# Altium schematic symbol library WE-CBF.SchLib: 156 symbols (part 3 of 3)
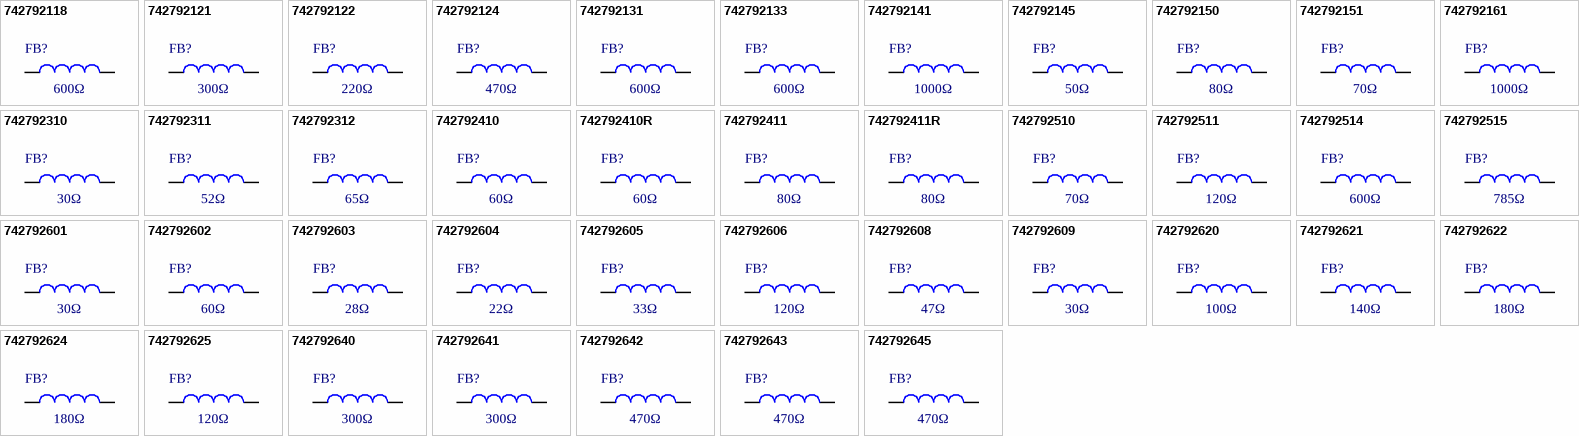
[diagram p5: symbols 742792118 to 742792645]

## 742792622
designator FB?, comment 180Ω
WE-CBF SMT EMI Suppression Ferrite Bead, size 0603, 180Ω, 1.5A; Manufacturer Part Number: 742792622; Manufacturer: Wurth Elektronik; Case/Size Code: 0603; DC Resistance Max: 0.3Ω; Impedance Max: 283Ω; Impedance Max Test Condition: 410MHz; Type: Wide Band; Category: Ferrites for PCB Assembly; Match Code: WE-CBF; ComponentLink1Description: Website Link; ComponentLink1URL: https://www.we-online.com/redexpert/article/742792622?ad; ComponentLink2Description: Datasheet Link; ComponentLink2URL: https://www.we-online.com/redexpert/spec/742792622?ad; Mount: Surface Mount; Min Operating Temperature: -55°C; Max Operating Temperature: 125°C; Packaging: Tape and Reel; Length: 1.6mm; Width: 0.8mm; Height: 0.8mm; Impedance @100MHz: 180Ω; Rated Current: 1.5A
footprint WE-CBF_0603_L1.6W0.8H0.8_HS_WB
simulation model 0603_742792622_180ohm
pins: 1, 2

## 742792624
designator FB?, comment 180Ω
WE-CBF SMT EMI Suppression Ferrite Bead, size 0603, 180Ω, 1.5A; Manufacturer Part Number: 742792624; Manufacturer: Wurth Elektronik; Case/Size Code: 0603; DC Resistance Max: 0.09Ω; Impedance Max: 250Ω; Impedance Max Test Condition: 400MHz; Type: High Current; Category: Ferrites for PCB Assembly; Match Code: WE-CBF; ComponentLink1Description: Website Link; ComponentLink1URL: https://www.we-online.com/redexpert/article/742792624?ad; ComponentLink2Description: Datasheet Link; ComponentLink2URL: https://www.we-online.com/redexpert/spec/742792624?ad; Mount: Surface Mount; Min Operating Temperature: -55°C; Max Operating Temperature: 125°C; Packaging: Tape and Reel; Length: 1.6mm; Width: 0.8mm; Height: 0.8mm; Impedance @100MHz: 180Ω; Rated Current: 1.5A
footprint WE-CBF_0603_L1.6W0.8H0.8_HC
simulation model 0603_742792624_180ohm
pins: 1, 2

## 742792625
designator FB?, comment 120Ω
WE-CBF SMT EMI Suppression Ferrite Bead, size 0603, 120Ω, 2A; Manufacturer Part Number: 742792625; Manufacturer: Wurth Elektronik; Case/Size Code: 0603; DC Resistance Max: 0.05Ω; Impedance Max: 180Ω; Impedance Max Test Condition: 400MHz; Type: High Current; Category: Ferrites for PCB Assembly; Match Code: WE-CBF; ComponentLink1Description: Website Link; ComponentLink1URL: https://www.we-online.com/redexpert/article/742792625?ad; ComponentLink2Description: Datasheet Link; ComponentLink2URL: https://www.we-online.com/redexpert/spec/742792625?ad; Mount: Surface Mount; Min Operating Temperature: -55°C; Max Operating Temperature: 125°C; Packaging: Tape and Reel; Length: 1.6mm; Width: 0.8mm; Height: 0.8mm; Impedance @100MHz: 120Ω; Rated Current: 2A
footprint WE-CBF_0603_L1.6W0.8H0.8_HC
simulation model 0603_742792625_120ohm
pins: 1, 2

## 742792640
designator FB?, comment 300Ω
WE-CBF SMT EMI Suppression Ferrite Bead, size 0603, 300Ω, 0.75A; Manufacturer Part Number: 742792640; Manufacturer: Wurth Elektronik; Case/Size Code: 0603; DC Resistance Max: 0.35Ω; Impedance Max: 1500Ω; Impedance Max Test Condition: 250MHz; Type: High Speed; Category: Ferrites for PCB Assembly; Match Code: WE-CBF; ComponentLink1Description: Website Link; ComponentLink1URL: https://www.we-online.com/redexpert/article/742792640?ad; ComponentLink2Description: Datasheet Link; ComponentLink2URL: https://www.we-online.com/redexpert/spec/742792640?ad; Mount: Surface Mount; Min Operating Temperature: -55°C; Max Operating Temperature: 125°C; Packaging: Tape and Reel; Length: 1.6mm; Width: 0.8mm; Height: 0.8mm; Impedance @100MHz: 300Ω; Rated Current: 0.75A
footprint WE-CBF_0603_L1.6W0.8H0.8_HS_WB
simulation model 0603_742792640_300ohm
pins: 1, 2

## 742792641
designator FB?, comment 300Ω
WE-CBF SMT EMI Suppression Ferrite Bead, size 0603, 300Ω, 2A; Manufacturer Part Number: 742792641; Manufacturer: Wurth Elektronik; Case/Size Code: 0603; DC Resistance Max: 0.15Ω; Impedance Max: 450Ω; Impedance Max Test Condition: 250MHz; Type: High Current; Category: Ferrites for PCB Assembly; Match Code: WE-CBF; ComponentLink1Description: Website Link; ComponentLink1URL: https://www.we-online.com/redexpert/article/742792641?ad; ComponentLink2Description: Datasheet Link; ComponentLink2URL: https://www.we-online.com/redexpert/spec/742792641?ad; Mount: Surface Mount; Min Operating Temperature: -55°C; Max Operating Temperature: 125°C; Packaging: Tape and Reel; Length: 1.6mm; Width: 0.8mm; Height: 0.8mm; Impedance @100MHz: 300Ω; Rated Current: 2A
footprint WE-CBF_0603_L1.6W0.8H0.8_HC
simulation model 0603_742792641_300ohm
pins: 1, 2

## 742792642
designator FB?, comment 470Ω
WE-CBF SMT EMI Suppression Ferrite Bead, size 0603, 470Ω, 0.95A; Manufacturer Part Number: 742792642; Manufacturer: Wurth Elektronik; Case/Size Code: 0603; DC Resistance Max: 0.45Ω; Impedance Max: 780Ω; Impedance Max Test Condition: 300MHz; Type: Wide Band; Category: Ferrites for PCB Assembly; Match Code: WE-CBF; ComponentLink1Description: Website Link; ComponentLink1URL: https://www.we-online.com/redexpert/article/742792642?ad; ComponentLink2Description: Datasheet Link; ComponentLink2URL: https://www.we-online.com/redexpert/spec/742792642?ad; Mount: Surface Mount; Min Operating Temperature: -55°C; Max Operating Temperature: 125°C; Packaging: Tape and Reel; Length: 1.6mm; Width: 0.8mm; Height: 0.8mm; Impedance @100MHz: 470Ω; Rated Current: 0.95A
footprint WE-CBF_0603_L1.6W0.8H0.8_HS_WB
simulation model 0603_742792642_470ohm
pins: 1, 2

## 742792643
designator FB?, comment 470Ω
WE-CBF SMT EMI Suppression Ferrite Bead, size 0603, 470Ω, 0.73A; Manufacturer Part Number: 742792643; Manufacturer: Wurth Elektronik; Case/Size Code: 0603; DC Resistance Max: 0.35Ω; Impedance Max: 700Ω; Impedance Max Test Condition: 250MHz; Type: High Speed; Category: Ferrites for PCB Assembly; Match Code: WE-CBF; ComponentLink1Description: Website Link; ComponentLink1URL: https://www.we-online.com/redexpert/article/742792643?ad; ComponentLink2Description: Datasheet Link; ComponentLink2URL: https://www.we-online.com/redexpert/spec/742792643?ad; Mount: Surface Mount; Min Operating Temperature: -55°C; Max Operating Temperature: 125°C; Packaging: Tape and Reel; Length: 1.6mm; Width: 0.8mm; Height: 0.8mm; Impedance @100MHz: 470Ω; Rated Current: 0.73A
footprint WE-CBF_0603_L1.6W0.8H0.8_HS_WB
simulation model 0603_742792643_470ohm
pins: 1, 2

## 742792645
designator FB?, comment 470Ω
WE-CBF SMT EMI Suppression Ferrite Bead, size 0603, 470Ω, 1A; Manufacturer Part Number: 742792645; Manufacturer: Wurth Elektronik; Case/Size Code: 0603; DC Resistance Max: 0.2Ω; Impedance Max: 600Ω; Impedance Max Test Condition: 230MHz; Type: High Current; Category: Ferrites for PCB Assembly; Match Code: WE-CBF; ComponentLink1Description: Website Link; ComponentLink1URL: https://www.we-online.com/redexpert/article/742792645?ad; ComponentLink2Description: Datasheet Link; ComponentLink2URL: https://www.we-online.com/redexpert/spec/742792645?ad; Mount: Surface Mount; Min Operating Temperature: -55°C; Max Operating Temperature: 125°C; Packaging: Tape and Reel; Length: 1.6mm; Width: 0.8mm; Height: 0.8mm; Impedance @100MHz: 470Ω; Rated Current: 1A
footprint WE-CBF_0603_L1.6W0.8H0.8_HC
simulation model 0603_742792645_470ohm
pins: 1, 2

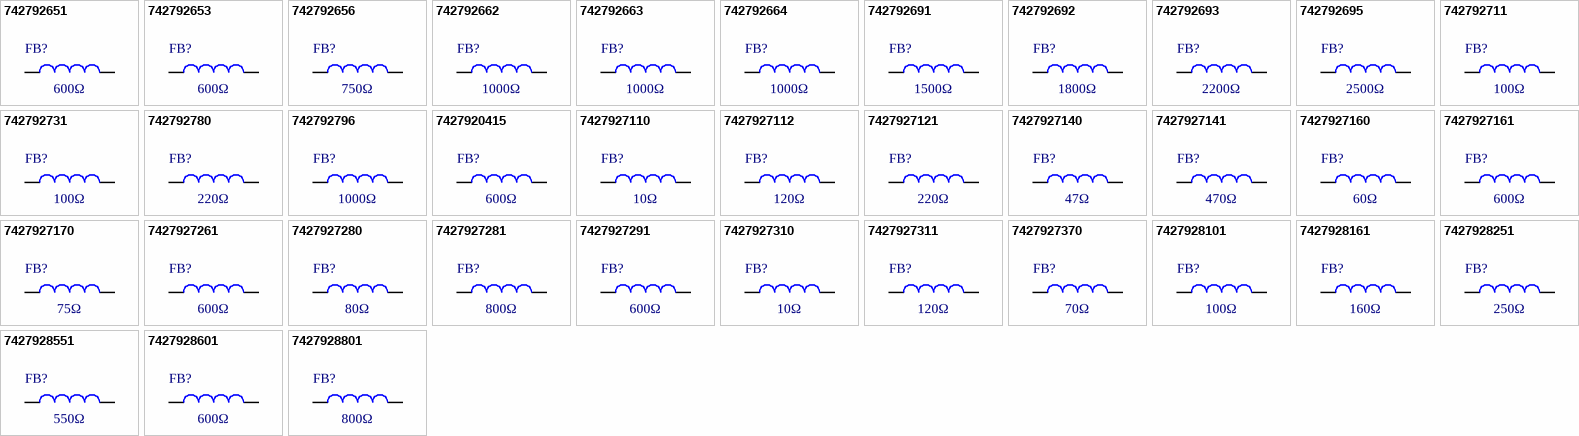
[diagram p3: symbols 742792651 to 7427928801]

## 742792651
designator FB?, comment 600Ω
WE-CBF SMT EMI Suppression Ferrite Bead, size 0603, 600Ω, 1A; Manufacturer Part Number: 742792651; Manufacturer: Wurth Elektronik; Case/Size Code: 0603; DC Resistance Max: 0.2Ω; Impedance Max: 800Ω; Impedance Max Test Condition: 200MHz; Type: High Current; Category: Ferrites for PCB Assembly; Match Code: WE-CBF; ComponentLink1Description: Website Link; ComponentLink1URL: https://www.we-online.com/redexpert/article/742792651?ad; ComponentLink2Description: Datasheet Link; ComponentLink2URL: https://www.we-online.com/redexpert/spec/742792651?ad; Mount: Surface Mount; Min Operating Temperature: -55°C; Max Operating Temperature: 125°C; Packaging: Tape and Reel; Length: 1.6mm; Width: 0.8mm; Height: 0.8mm; Impedance @100MHz: 600Ω; Rated Current: 1A
footprint WE-CBF_0603_L1.6W0.8H0.8_HC
simulation model 0603_742792651_600ohm
pins: 1, 2

## 742792653
designator FB?, comment 600Ω
WE-CBF SMT EMI Suppression Ferrite Bead, size 0603, 600Ω, 0.5A; Manufacturer Part Number: 742792653; Manufacturer: Wurth Elektronik; Case/Size Code: 0603; DC Resistance Max: 0.65Ω; Impedance Max: 4500Ω; Impedance Max Test Condition: 200MHz; Type: High Speed; Category: Ferrites for PCB Assembly; Match Code: WE-CBF; ComponentLink1Description: Website Link; ComponentLink1URL: https://www.we-online.com/redexpert/article/742792653?ad; ComponentLink2Description: Datasheet Link; ComponentLink2URL: https://www.we-online.com/redexpert/spec/742792653?ad; Mount: Surface Mount; Min Operating Temperature: -55°C; Max Operating Temperature: 125°C; Packaging: Tape and Reel; Length: 1.6mm; Width: 0.8mm; Height: 0.8mm; Impedance @100MHz: 600Ω; Rated Current: 0.5A
footprint WE-CBF_0603_L1.6W0.8H0.8_HS_WB
simulation model 0603_742792653_600ohm
pins: 1, 2

## 742792656
designator FB?, comment 750Ω
WE-CBF SMT EMI Suppression Ferrite Bead, size 0603, 750Ω, 0.9A; Manufacturer Part Number: 742792656; Manufacturer: Wurth Elektronik; Case/Size Code: 0603; DC Resistance Max: 0.35Ω; Impedance Max: 800Ω; Impedance Max Test Condition: 150MHz; Type: Wide Band; Category: Ferrites for PCB Assembly; Match Code: WE-CBF; ComponentLink1Description: Website Link; ComponentLink1URL: https://www.we-online.com/redexpert/article/742792656?ad; ComponentLink2Description: Datasheet Link; ComponentLink2URL: https://www.we-online.com/redexpert/spec/742792656?ad; Mount: Surface Mount; Min Operating Temperature: -55°C; Max Operating Temperature: 125°C; Packaging: Tape and Reel; Length: 1.6mm; Width: 0.8mm; Height: 0.8mm; Impedance @100MHz: 750Ω; Rated Current: 0.9A
footprint WE-CBF_0603_L1.6W0.8H0.8_HS_WB
simulation model 0603_742792656_750ohm
pins: 1, 2

## 742792662
designator FB?, comment 1000Ω
WE-CBF SMT EMI Suppression Ferrite Bead, size 0603, 1000Ω, 0.83A; Manufacturer Part Number: 742792662; Manufacturer: Wurth Elektronik; Case/Size Code: 0603; DC Resistance Max: 0.3Ω; Impedance Max: 1050Ω; Impedance Max Test Condition: 120MHz; Type: Wide Band; Category: Ferrites for PCB Assembly; Match Code: WE-CBF; ComponentLink1Description: Website Link; ComponentLink1URL: https://www.we-online.com/redexpert/article/742792662?ad; ComponentLink2Description: Datasheet Link; ComponentLink2URL: https://www.we-online.com/redexpert/spec/742792662?ad; Mount: Surface Mount; Min Operating Temperature: -55°C; Max Operating Temperature: 125°C; Packaging: Tape and Reel; Length: 1.6mm; Width: 0.8mm; Height: 0.8mm; Impedance @100MHz: 1000Ω; Rated Current: 0.83A
footprint WE-CBF_0603_L1.6W0.8H0.8_HS_WB
simulation model 0603_742792662_1000ohm
pins: 1, 2

## 742792663
designator FB?, comment 1000Ω
WE-CBF SMT EMI Suppression Ferrite Bead, size 0603, 1000Ω, 0.65A; Manufacturer Part Number: 742792663; Manufacturer: Wurth Elektronik; Case/Size Code: 0603; DC Resistance Max: 0.85Ω; Impedance Max: 1100Ω; Impedance Max Test Condition: 150MHz; Type: Wide Band; Category: Ferrites for PCB Assembly; Match Code: WE-CBF; ComponentLink1Description: Website Link; ComponentLink1URL: https://www.we-online.com/redexpert/article/742792663?ad; ComponentLink2Description: Datasheet Link; ComponentLink2URL: https://www.we-online.com/redexpert/spec/742792663?ad; Mount: Surface Mount; Min Operating Temperature: -55°C; Max Operating Temperature: 125°C; Packaging: Tape and Reel; Length: 1.6mm; Width: 0.8mm; Height: 0.8mm; Impedance @100MHz: 1000Ω; Rated Current: 0.65A
footprint WE-CBF_0603_L1.6W0.8H0.8_HS_WB
simulation model 0603_742792663_1000ohm
pins: 1, 2

## 742792664
designator FB?, comment 1000Ω
WE-CBF SMT EMI Suppression Ferrite Bead, size 0603, 1000Ω, 0.68A; Manufacturer Part Number: 742792664; Manufacturer: Wurth Elektronik; Case/Size Code: 0603; DC Resistance Max: 0.6Ω; Impedance Max: 1100Ω; Impedance Max Test Condition: 120MHz; Type: High Speed; Category: Ferrites for PCB Assembly; Match Code: WE-CBF; ComponentLink1Description: Website Link; ComponentLink1URL: https://www.we-online.com/redexpert/article/742792664?ad; ComponentLink2Description: Datasheet Link; ComponentLink2URL: https://www.we-online.com/redexpert/spec/742792664?ad; Mount: Surface Mount; Min Operating Temperature: -55°C; Max Operating Temperature: 125°C; Packaging: Tape and Reel; Length: 1.6mm; Width: 0.8mm; Height: 0.8mm; Impedance @100MHz: 1000Ω; Rated Current: 0.68A
footprint WE-CBF_0603_L1.6W0.8H0.8_HS_WB
simulation model 0603_742792664_1000ohm
pins: 1, 2

## 742792691
designator FB?, comment 1500Ω
WE-CBF SMT EMI Suppression Ferrite Bead, size 0603, 1500Ω, 0.65A; Manufacturer Part Number: 742792691; Manufacturer: Wurth Elektronik; Case/Size Code: 0603; DC Resistance Max: 0.7Ω; Impedance Max: 1900Ω; Impedance Max Test Condition: 140MHz; Type: Wide Band; Category: Ferrites for PCB Assembly; Match Code: WE-CBF; ComponentLink1Description: Website Link; ComponentLink1URL: https://www.we-online.com/redexpert/article/742792691?ad; ComponentLink2Description: Datasheet Link; ComponentLink2URL: https://www.we-online.com/redexpert/spec/742792691?ad; Mount: Surface Mount; Min Operating Temperature: -55°C; Max Operating Temperature: 125°C; Packaging: Tape and Reel; Length: 1.6mm; Width: 0.8mm; Height: 0.8mm; Impedance @100MHz: 1500Ω; Rated Current: 0.65A
footprint WE-CBF_0603_L1.6W0.8H0.8_HS_WB
simulation model 0603_742792691_1500ohm
pins: 1, 2

## 742792692
designator FB?, comment 1800Ω
WE-CBF SMT EMI Suppression Ferrite Bead, size 0603, 1800Ω, 0.5A; Manufacturer Part Number: 742792692; Manufacturer: Wurth Elektronik; Case/Size Code: 0603; DC Resistance Max: 0.8Ω; Impedance Max: 2100Ω; Impedance Max Test Condition: 130MHz; Type: Wide Band; Category: Ferrites for PCB Assembly; Match Code: WE-CBF; ComponentLink1Description: Website Link; ComponentLink1URL: https://www.we-online.com/redexpert/article/742792692?ad; ComponentLink2Description: Datasheet Link; ComponentLink2URL: https://www.we-online.com/redexpert/spec/742792692?ad; Mount: Surface Mount; Min Operating Temperature: -55°C; Max Operating Temperature: 125°C; Packaging: Tape and Reel; Length: 1.6mm; Width: 0.8mm; Height: 0.8mm; Impedance @100MHz: 1800Ω; Rated Current: 0.5A
footprint WE-CBF_0603_L1.6W0.8H0.8_HS_WB
simulation model 0603_742792692_1800ohm
pins: 1, 2

## 742792693
designator FB?, comment 2200Ω
WE-CBF SMT EMI Suppression Ferrite Bead, size 0603, 2200Ω, 0.5A; Manufacturer Part Number: 742792693; Manufacturer: Wurth Elektronik; Case/Size Code: 0603; DC Resistance Max: 0.8Ω; Impedance Max: 2250Ω; Impedance Max Test Condition: 110MHz; Type: Wide Band; Category: Ferrites for PCB Assembly; Match Code: WE-CBF; ComponentLink1Description: Website Link; ComponentLink1URL: https://www.we-online.com/redexpert/article/742792693?ad; ComponentLink2Description: Datasheet Link; ComponentLink2URL: https://www.we-online.com/redexpert/spec/742792693?ad; Mount: Surface Mount; Min Operating Temperature: -55°C; Max Operating Temperature: 125°C; Packaging: Tape and Reel; Length: 1.6mm; Width: 0.8mm; Height: 0.8mm; Impedance @100MHz: 2200Ω; Rated Current: 0.5A
footprint WE-CBF_0603_L1.6W0.8H0.8_HS_WB
simulation model 0603_742792693_2200ohm
pins: 1, 2

## 742792695
designator FB?, comment 2500Ω
WE-CBF SMT EMI Suppression Ferrite Bead, size 0603, 2500Ω, 0.45A; Manufacturer Part Number: 742792695; Manufacturer: Wurth Elektronik; Case/Size Code: 0603; DC Resistance Max: 1Ω; Impedance Max: 3000Ω; Impedance Max Test Condition: 80MHz; Type: Wide Band; Category: Ferrites for PCB Assembly; Match Code: WE-CBF; ComponentLink1Description: Website Link; ComponentLink1URL: https://www.we-online.com/redexpert/article/742792695?ad; ComponentLink2Description: Datasheet Link; ComponentLink2URL: https://www.we-online.com/redexpert/spec/742792695?ad; Mount: Surface Mount; Min Operating Temperature: -55°C; Max Operating Temperature: 125°C; Packaging: Tape and Reel; Length: 1.6mm; Width: 0.8mm; Height: 0.8mm; Impedance @100MHz: 2500Ω; Rated Current: 0.45A
footprint WE-CBF_0603_L1.6W0.8H0.8_HS_WB
simulation model 0603_742792695_2500ohm
pins: 1, 2

## 742792711
designator FB?, comment 100Ω
WE-CBF SMT EMI Suppression Ferrite Bead, size 0402, 100Ω, 0.87A; Manufacturer Part Number: 742792711; Manufacturer: Wurth Elektronik; Case/Size Code: 0402; DC Resistance Max: 0.3Ω; Impedance Max: 200Ω; Impedance Max Test Condition: 800MHz; Type: High Speed; Category: Ferrites for PCB Assembly; Match Code: WE-CBF; ComponentLink1Description: Website Link; ComponentLink1URL: https://www.we-online.com/redexpert/article/742792711?ad; ComponentLink2Description: Datasheet Link; ComponentLink2URL: https://www.we-online.com/redexpert/spec/742792711?ad; Mount: Surface Mount; Min Operating Temperature: -55°C; Max Operating Temperature: 125°C; Packaging: Tape and Reel; Length: 1mm; Width: 0.5mm; Height: 0.5mm; Impedance @100MHz: 100Ω; Rated Current: 0.87A
footprint WE-CBF_0402_L1W0.5H0.5_HS_WB
simulation model 0402_742792711_100ohm
pins: 1, 2

## 742792731
designator FB?, comment 100Ω
WE-CBF SMT EMI Suppression Ferrite Bead, size 0402, 100Ω, 1.2A; Manufacturer Part Number: 742792731; Manufacturer: Wurth Elektronik; Case/Size Code: 0402; DC Resistance Max: 0.09Ω; Impedance Max: 140Ω; Impedance Max Test Condition: 600MHz; Type: High Current; Category: Ferrites for PCB Assembly; Match Code: WE-CBF; ComponentLink1Description: Website Link; ComponentLink1URL: https://www.we-online.com/redexpert/article/742792731?ad; ComponentLink2Description: Datasheet Link; ComponentLink2URL: https://www.we-online.com/redexpert/spec/742792731?ad; Mount: Surface Mount; Min Operating Temperature: -55°C; Max Operating Temperature: 125°C; Packaging: Tape and Reel; Length: 1mm; Width: 0.5mm; Height: 0.5mm; Impedance @100MHz: 100Ω; Rated Current: 1.2A
footprint WE-CBF_0402_L1W0.5H0.5_HC
simulation model 0402_742792731_100ohm
pins: 1, 2

## 742792780
designator FB?, comment 220Ω
WE-CBF SMT EMI Suppression Ferrite Bead, size 0402, 220Ω, 0.9A; Manufacturer Part Number: 742792780; Manufacturer: Wurth Elektronik; Case/Size Code: 0402; DC Resistance Max: 0.35Ω; Impedance Max: 360Ω; Impedance Max Test Condition: 450MHz; Type: Wide Band; Category: Ferrites for PCB Assembly; Match Code: WE-CBF; ComponentLink1Description: Website Link; ComponentLink1URL: https://www.we-online.com/redexpert/article/742792780?ad; ComponentLink2Description: Datasheet Link; ComponentLink2URL: https://www.we-online.com/redexpert/spec/742792780?ad; Mount: Surface Mount; Min Operating Temperature: -55°C; Max Operating Temperature: 125°C; Packaging: Tape and Reel; Length: 1mm; Width: 0.5mm; Height: 0.5mm; Impedance @100MHz: 220Ω; Rated Current: 0.9A
footprint WE-CBF_0402_L1W0.5H0.5_HS_WB
simulation model 0402_742792780_220ohm
pins: 1, 2

## 742792796
designator FB?, comment 1000Ω
WE-CBF SMT EMI Suppression Ferrite Bead, size 0402, 1000Ω, 0.55A; Manufacturer Part Number: 742792796; Manufacturer: Wurth Elektronik; Case/Size Code: 0402; DC Resistance Max: 1.5Ω; Impedance Max: 1200Ω; Impedance Max Test Condition: 200MHz; Type: Wide Band; Category: Ferrites for PCB Assembly; Match Code: WE-CBF; ComponentLink1Description: Website Link; ComponentLink1URL: https://www.we-online.com/redexpert/article/742792796?ad; ComponentLink2Description: Datasheet Link; ComponentLink2URL: https://www.we-online.com/redexpert/spec/742792796?ad; Mount: Surface Mount; Min Operating Temperature: -55°C; Max Operating Temperature: 125°C; Packaging: Tape and Reel; Length: 1mm; Width: 0.5mm; Height: 0.5mm; Impedance @100MHz: 1000Ω; Rated Current: 0.55A
footprint WE-CBF_0402_L1W0.5H0.5_HS_WB
simulation model 0402_742792796_1000ohm
pins: 1, 2

## 7427920415
designator FB?, comment 600Ω
WE-CBF SMT EMI Suppression Ferrite Bead, size 0805, 600Ω, 1.5A; Manufacturer Part Number: 7427920415; Manufacturer: Wurth Elektronik; Case/Size Code: 0805; DC Resistance Max: 0.3Ω; Impedance Max: 660Ω; Impedance Max Test Condition: 150MHz; Type: Wide Band; Category: Ferrites for PCB Assembly; Match Code: WE-CBF; ComponentLink1Description: Website Link; ComponentLink1URL: https://www.we-online.com/redexpert/article/7427920415?ad; ComponentLink2Description: Datasheet Link; ComponentLink2URL: https://www.we-online.com/redexpert/spec/7427920415?ad; Mount: Surface Mount; Min Operating Temperature: -55°C; Max Operating Temperature: 125°C; Packaging: Tape and Reel; Length: 2mm; Width: 1.2mm; Height: 0.9mm; Impedance @100MHz: 600Ω; Rated Current: 1.5A
footprint WE-CBF_0805_L2W1.2H0.9_HS_WB
simulation model 0805_7427920415_600ohm
pins: 1, 2

## 7427927110
designator FB?, comment 10Ω
WE-CBF SMT EMI Suppression Ferrite Bead, size 0402, 10Ω, 2.8A; Manufacturer Part Number: 7427927110; Manufacturer: Wurth Elektronik; Case/Size Code: 0402; DC Resistance Max: 0.05Ω; Impedance Max: 15Ω; Impedance Max Test Condition: 1000MHz; Type: High Speed; Category: Ferrites for PCB Assembly; Match Code: WE-CBF; ComponentLink1Description: Website Link; ComponentLink1URL: https://www.we-online.com/redexpert/article/7427927110?ad; ComponentLink2Description: Datasheet Link; ComponentLink2URL: https://www.we-online.com/redexpert/spec/7427927110?ad; Mount: Surface Mount; Min Operating Temperature: -55°C; Max Operating Temperature: 125°C; Packaging: Tape and Reel; Length: 1mm; Width: 0.5mm; Height: 0.5mm; Impedance @100MHz: 10Ω; Rated Current: 2.8A
footprint WE-CBF_0402_L1W0.5H0.5_HS_WB
simulation model 0402_7427927110_10ohm
pins: 1, 2

## 7427927112
designator FB?, comment 120Ω
WE-CBF SMT EMI Suppression Ferrite Bead, size 0402, 120Ω, 0.71A; Manufacturer Part Number: 7427927112; Manufacturer: Wurth Elektronik; Case/Size Code: 0402; DC Resistance Max: 0.35Ω; Impedance Max: 900Ω; Impedance Max Test Condition: 500MHz; Type: High Speed; Category: Ferrites for PCB Assembly; Match Code: WE-CBF; ComponentLink1Description: Website Link; ComponentLink1URL: https://www.we-online.com/redexpert/article/7427927112?ad; ComponentLink2Description: Datasheet Link; ComponentLink2URL: https://www.we-online.com/redexpert/spec/7427927112?ad; Mount: Surface Mount; Min Operating Temperature: -55°C; Max Operating Temperature: 125°C; Packaging: Tape and Reel; Length: 1mm; Width: 0.5mm; Height: 0.5mm; Impedance @100MHz: 120Ω; Rated Current: 0.71A
footprint WE-CBF_0402_L1W0.5H0.5_HS_WB
simulation model 0402_7427927112_120ohm
pins: 1, 2

## 7427927121
designator FB?, comment 220Ω
WE-CBF SMT EMI Suppression Ferrite Bead, size 0402, 220Ω, 0.5A; Manufacturer Part Number: 7427927121; Manufacturer: Wurth Elektronik; Case/Size Code: 0402; DC Resistance Max: 0.8Ω; Impedance Max: 1300Ω; Impedance Max Test Condition: 350MHz; Type: High Speed; Category: Ferrites for PCB Assembly; Match Code: WE-CBF; ComponentLink1Description: Website Link; ComponentLink1URL: https://www.we-online.com/redexpert/article/7427927121?ad; ComponentLink2Description: Datasheet Link; ComponentLink2URL: https://www.we-online.com/redexpert/spec/7427927121?ad; Mount: Surface Mount; Min Operating Temperature: -55°C; Max Operating Temperature: 125°C; Packaging: Tape and Reel; Length: 1mm; Width: 0.5mm; Height: 0.5mm; Impedance @100MHz: 220Ω; Rated Current: 0.5A
footprint WE-CBF_0402_L1W0.5H0.5_HS_WB
simulation model 0402_7427927121_220ohm
pins: 1, 2

## 7427927140
designator FB?, comment 47Ω
WE-CBF SMT EMI Suppression Ferrite Bead, size 0402, 47Ω, 1.1A; Manufacturer Part Number: 7427927140; Manufacturer: Wurth Elektronik; Case/Size Code: 0402; DC Resistance Max: 0.4Ω; Impedance Max: 71Ω; Impedance Max Test Condition: 800MHz; Type: High Speed; Category: Ferrites for PCB Assembly; Match Code: WE-CBF; ComponentLink1Description: Website Link; ComponentLink1URL: https://www.we-online.com/redexpert/article/7427927140?ad; ComponentLink2Description: Datasheet Link; ComponentLink2URL: https://www.we-online.com/redexpert/spec/7427927140?ad; Mount: Surface Mount; Min Operating Temperature: -55°C; Max Operating Temperature: 125°C; Packaging: Tape and Reel; Length: 1mm; Width: 0.5mm; Height: 0.5mm; Impedance @100MHz: 47Ω; Rated Current: 1.1A
footprint WE-CBF_0402_L1W0.5H0.5_HS_WB
simulation model 0402_7427927140_47ohm
pins: 1, 2

## 7427927141
designator FB?, comment 470Ω
WE-CBF SMT EMI Suppression Ferrite Bead, size 0402, 470Ω, 0.62A; Manufacturer Part Number: 7427927141; Manufacturer: Wurth Elektronik; Case/Size Code: 0402; DC Resistance Max: 0.45Ω; Impedance Max: 1200Ω; Impedance Max Test Condition: 300MHz; Type: High Speed; Category: Ferrites for PCB Assembly; Match Code: WE-CBF; ComponentLink1Description: Website Link; ComponentLink1URL: https://www.we-online.com/redexpert/article/7427927141?ad; ComponentLink2Description: Datasheet Link; ComponentLink2URL: https://www.we-online.com/redexpert/spec/7427927141?ad; Mount: Surface Mount; Min Operating Temperature: -55°C; Max Operating Temperature: 125°C; Packaging: Tape and Reel; Length: 1mm; Width: 0.5mm; Height: 0.5mm; Impedance @100MHz: 470Ω; Rated Current: 0.62A
footprint WE-CBF_0402_L1W0.5H0.5_HS_WB
simulation model 0402_7427927141_470ohm
pins: 1, 2

## 7427927160
designator FB?, comment 60Ω
WE-CBF SMT EMI Suppression Ferrite Bead, size 0402, 60Ω, 0.85A; Manufacturer Part Number: 7427927160; Manufacturer: Wurth Elektronik; Case/Size Code: 0402; DC Resistance Max: 0.3Ω; Impedance Max: 450Ω; Impedance Max Test Condition: 800MHz; Type: High Speed; Category: Ferrites for PCB Assembly; Match Code: WE-CBF; ComponentLink1Description: Website Link; ComponentLink1URL: https://www.we-online.com/redexpert/article/7427927160?ad; ComponentLink2Description: Datasheet Link; ComponentLink2URL: https://www.we-online.com/redexpert/spec/7427927160?ad; Mount: Surface Mount; Min Operating Temperature: -55°C; Max Operating Temperature: 125°C; Packaging: Tape and Reel; Length: 1mm; Width: 0.5mm; Height: 0.5mm; Impedance @100MHz: 60Ω; Rated Current: 0.85A
footprint WE-CBF_0402_L1W0.5H0.5_HS_WB
simulation model 0402_7427927160_60ohm
pins: 1, 2

## 7427927161
designator FB?, comment 600Ω
WE-CBF SMT EMI Suppression Ferrite Bead, size 0402, 600Ω, 0.51A; Manufacturer Part Number: 7427927161; Manufacturer: Wurth Elektronik; Case/Size Code: 0402; DC Resistance Max: 0.56Ω; Impedance Max: 1300Ω; Impedance Max Test Condition: 300MHz; Type: High Speed; Category: Ferrites for PCB Assembly; Match Code: WE-CBF; ComponentLink1Description: Website Link; ComponentLink1URL: https://www.we-online.com/redexpert/article/7427927161?ad; ComponentLink2Description: Datasheet Link; ComponentLink2URL: https://www.we-online.com/redexpert/spec/7427927161?ad; Mount: Surface Mount; Min Operating Temperature: -55°C; Max Operating Temperature: 125°C; Packaging: Tape and Reel; Length: 1mm; Width: 0.5mm; Height: 0.5mm; Impedance @100MHz: 600Ω; Rated Current: 0.51A
footprint WE-CBF_0402_L1W0.5H0.5_HS_WB
simulation model 0402_7427927161_600ohm
pins: 1, 2

## 7427927170
designator FB?, comment 75Ω
WE-CBF SMT EMI Suppression Ferrite Bead, size 0402, 75Ω, 0.65A; Manufacturer Part Number: 7427927170; Manufacturer: Wurth Elektronik; Case/Size Code: 0402; DC Resistance Max: 0.31Ω; Impedance Max: 400Ω; Impedance Max Test Condition: 800MHz; Type: High Speed; Category: Ferrites for PCB Assembly; Match Code: WE-CBF; ComponentLink1Description: Website Link; ComponentLink1URL: https://www.we-online.com/redexpert/article/7427927170?ad; ComponentLink2Description: Datasheet Link; ComponentLink2URL: https://www.we-online.com/redexpert/spec/7427927170?ad; Mount: Surface Mount; Min Operating Temperature: -55°C; Max Operating Temperature: 125°C; Packaging: Tape and Reel; Length: 1mm; Width: 0.5mm; Height: 0.5mm; Impedance @100MHz: 75Ω; Rated Current: 0.65A
footprint WE-CBF_0402_L1W0.5H0.5_HS_WB
simulation model 0402_7427927170_75ohm
pins: 1, 2

## 7427927261
designator FB?, comment 600Ω
WE-CBF SMT EMI Suppression Ferrite Bead, size 0402, 600Ω, 0.55A; Manufacturer Part Number: 7427927261; Manufacturer: Wurth Elektronik; Case/Size Code: 0402; DC Resistance Max: 0.6Ω; Impedance Max: 780Ω; Impedance Max Test Condition: 250MHz; Type: Wide Band; Category: Ferrites for PCB Assembly; Match Code: WE-CBF; ComponentLink1Description: Website Link; ComponentLink1URL: https://www.we-online.com/redexpert/article/7427927261?ad; ComponentLink2Description: Datasheet Link; ComponentLink2URL: https://www.we-online.com/redexpert/spec/7427927261?ad; Mount: Surface Mount; Min Operating Temperature: -55°C; Max Operating Temperature: 125°C; Packaging: Tape and Reel; Length: 1mm; Width: 0.5mm; Height: 0.5mm; Impedance @100MHz: 600Ω; Rated Current: 0.55A
footprint WE-CBF_0402_L1W0.5H0.5_HS_WB
simulation model 0402_7427927261_600ohm
pins: 1, 2

## 7427927280
designator FB?, comment 80Ω
WE-CBF SMT EMI Suppression Ferrite Bead, size 0402, 80Ω, 0.85A; Manufacturer Part Number: 7427927280; Manufacturer: Wurth Elektronik; Case/Size Code: 0402; DC Resistance Max: 0.25Ω; Impedance Max: 140Ω; Impedance Max Test Condition: 800MHz; Type: Wide Band; Category: Ferrites for PCB Assembly; Match Code: WE-CBF; ComponentLink1Description: Website Link; ComponentLink1URL: https://www.we-online.com/redexpert/article/7427927280?ad; ComponentLink2Description: Datasheet Link; ComponentLink2URL: https://www.we-online.com/redexpert/spec/7427927280?ad; Mount: Surface Mount; Min Operating Temperature: -55°C; Max Operating Temperature: 125°C; Packaging: Tape and Reel; Length: 1mm; Width: 0.5mm; Height: 0.5mm; Impedance @100MHz: 80Ω; Rated Current: 0.85A
footprint WE-CBF_0402_L1W0.5H0.5_HS_WB
simulation model 0402_7427927280_80ohm
pins: 1, 2

## 7427927281
designator FB?, comment 800Ω
WE-CBF SMT EMI Suppression Ferrite Bead, size 0402, 800Ω, 0.5A; Manufacturer Part Number: 7427927281; Manufacturer: Wurth Elektronik; Case/Size Code: 0402; DC Resistance Max: 0.8Ω; Impedance Max: 1000Ω; Impedance Max Test Condition: 200MHz; Type: Wide Band; Category: Ferrites for PCB Assembly; Match Code: WE-CBF; ComponentLink1Description: Website Link; ComponentLink1URL: https://www.we-online.com/redexpert/article/7427927281?ad; ComponentLink2Description: Datasheet Link; ComponentLink2URL: https://www.we-online.com/redexpert/spec/7427927281?ad; Mount: Surface Mount; Min Operating Temperature: -55°C; Max Operating Temperature: 125°C; Packaging: Tape and Reel; Length: 1mm; Width: 0.5mm; Height: 0.5mm; Impedance @100MHz: 800Ω; Rated Current: 0.5A
footprint WE-CBF_0402_L1W0.5H0.5_HS_WB
simulation model 0402_7427927281_800ohm
pins: 1, 2

## 7427927291
designator FB?, comment 600Ω
WE-CBF SMT EMI Suppression Ferrite Bead, size 0402, 600Ω, 0.51A; Manufacturer Part Number: 7427927291; Manufacturer: Wurth Elektronik; Case/Size Code: 0402; DC Resistance Max: 0.6Ω; Impedance Max: 900Ω; Impedance Max Test Condition: 250MHz; Type: Wide Band; Category: Ferrites for PCB Assembly; Match Code: WE-CBF; ComponentLink1Description: Website Link; ComponentLink1URL: https://www.we-online.com/redexpert/article/7427927291?ad; ComponentLink2Description: Datasheet Link; ComponentLink2URL: https://www.we-online.com/redexpert/spec/7427927291?ad; Mount: Surface Mount; Min Operating Temperature: -55°C; Max Operating Temperature: 125°C; Packaging: Tape and Reel; Length: 1mm; Width: 0.5mm; Height: 0.5mm; Impedance @100MHz: 600Ω; Rated Current: 0.51A
footprint WE-CBF_0402_L1W0.5H0.5_HS_WB
simulation model 0402_7427927291_600ohm
pins: 1, 2

## 7427927310
designator FB?, comment 10Ω
WE-CBF SMT EMI Suppression Ferrite Bead, size 0402, 10Ω, 2A; Manufacturer Part Number: 7427927310; Manufacturer: Wurth Elektronik; Case/Size Code: 0402; DC Resistance Max: 0.03Ω; Impedance Max: 15Ω; Impedance Max Test Condition: 800MHz; Type: High Current; Category: Ferrites for PCB Assembly; Match Code: WE-CBF; ComponentLink1Description: Website Link; ComponentLink1URL: https://www.we-online.com/redexpert/article/7427927310?ad; ComponentLink2Description: Datasheet Link; ComponentLink2URL: https://www.we-online.com/redexpert/spec/7427927310?ad; Mount: Surface Mount; Min Operating Temperature: -55°C; Max Operating Temperature: 125°C; Packaging: Tape and Reel; Length: 1mm; Width: 0.5mm; Height: 0.5mm; Impedance @100MHz: 10Ω; Rated Current: 2A
footprint WE-CBF_0402_L1W0.5H0.5_HC
simulation model 0402_7427927310_10ohm
pins: 1, 2

## 7427927311
designator FB?, comment 120Ω
WE-CBF SMT EMI Suppression Ferrite Bead, size 0402, 120Ω, 1.2A; Manufacturer Part Number: 7427927311; Manufacturer: Wurth Elektronik; Case/Size Code: 0402; DC Resistance Max: 0.09Ω; Impedance Max: 200Ω; Impedance Max Test Condition: 450MHz; Type: High Current; Category: Ferrites for PCB Assembly; Match Code: WE-CBF; ComponentLink1Description: Website Link; ComponentLink1URL: https://www.we-online.com/redexpert/article/7427927311?ad; ComponentLink2Description: Datasheet Link; ComponentLink2URL: https://www.we-online.com/redexpert/spec/7427927311?ad; Mount: Surface Mount; Min Operating Temperature: -55°C; Max Operating Temperature: 125°C; Packaging: Tape and Reel; Length: 1mm; Width: 0.5mm; Height: 0.5mm; Impedance @100MHz: 120Ω; Rated Current: 1.2A
footprint WE-CBF_0402_L1W0.5H0.5_HC
simulation model 0402_7427927311_120ohm
pins: 1, 2

## 7427927370
designator FB?, comment 70Ω
WE-CBF SMT EMI Suppression Ferrite Bead, size 0402, 70Ω, 1.2A; Manufacturer Part Number: 7427927370; Manufacturer: Wurth Elektronik; Case/Size Code: 0402; DC Resistance Max: 0.09Ω; Impedance Max: 140Ω; Impedance Max Test Condition: 600MHz; Type: High Current; Category: Ferrites for PCB Assembly; Match Code: WE-CBF; ComponentLink1Description: Website Link; ComponentLink1URL: https://www.we-online.com/redexpert/article/7427927370?ad; ComponentLink2Description: Datasheet Link; ComponentLink2URL: https://www.we-online.com/redexpert/spec/7427927370?ad; Mount: Surface Mount; Min Operating Temperature: -55°C; Max Operating Temperature: 125°C; Packaging: Tape and Reel; Length: 1mm; Width: 0.5mm; Height: 0.5mm; Impedance @100MHz: 70Ω; Rated Current: 1.2A
footprint WE-CBF_0402_L1W0.5H0.5_HC
simulation model 0402_7427927370_70ohm
pins: 1, 2

## 7427928101
designator FB?, comment 100Ω
WE-CBF SMT EMI Suppression Ferrite Bead, size 2220, 100Ω, 7A; Manufacturer Part Number: 7427928101; Manufacturer: Wurth Elektronik; Case/Size Code: 2220; DC Resistance Max: 0.005Ω; Impedance Max: 170Ω; Impedance Max Test Condition: 880MHz; Type: High Current; Category: Ferrites for PCB Assembly; Match Code: WE-CBF; ComponentLink1Description: Website Link; ComponentLink1URL: https://www.we-online.com/redexpert/article/7427928101?ad; ComponentLink2Description: Datasheet Link; ComponentLink2URL: https://www.we-online.com/redexpert/spec/7427928101?ad; Mount: Surface Mount; Min Operating Temperature: -55°C; Max Operating Temperature: 125°C; Packaging: Tape and Reel; Length: 5.6mm; Width: 5.1mm; Height: 1.8mm; Impedance @100MHz: 100Ω; Rated Current: 7A
footprint WE-CBF_2220_L5.6W5.1H1.8_HC
simulation model 2220_7427928101_100Ohm
pins: 1, 2

## 7427928161
designator FB?, comment 160Ω
WE-CBF SMT EMI Suppression Ferrite Bead, size 2220, 160Ω, 5A; Manufacturer Part Number: 7427928161; Manufacturer: Wurth Elektronik; Case/Size Code: 2220; DC Resistance Max: 0.01Ω; Impedance Max: 240Ω; Impedance Max Test Condition: 610MHz; Type: High Current; Category: Ferrites for PCB Assembly; Match Code: WE-CBF; ComponentLink1Description: Website Link; ComponentLink1URL: https://www.we-online.com/redexpert/article/7427928161?ad; ComponentLink2Description: Datasheet Link; ComponentLink2URL: https://www.we-online.com/redexpert/spec/7427928161?ad; Mount: Surface Mount; Min Operating Temperature: -55°C; Max Operating Temperature: 125°C; Packaging: Tape and Reel; Length: 5.6mm; Width: 5.1mm; Height: 1.8mm; Impedance @100MHz: 160Ω; Rated Current: 5A
footprint WE-CBF_2220_L5.6W5.1H1.8_HC
simulation model 2220_7427928161_160Ohm
pins: 1, 2

## 7427928251
designator FB?, comment 250Ω
WE-CBF SMT EMI Suppression Ferrite Bead, size 2220, 250Ω, 4A; Manufacturer Part Number: 7427928251; Manufacturer: Wurth Elektronik; Case/Size Code: 2220; DC Resistance Max: 0.012Ω; Impedance Max: 300Ω; Impedance Max Test Condition: 185MHz; Type: High Current; Category: Ferrites for PCB Assembly; Match Code: WE-CBF; ComponentLink1Description: Website Link; ComponentLink1URL: https://www.we-online.com/redexpert/article/7427928251?ad; ComponentLink2Description: Datasheet Link; ComponentLink2URL: https://www.we-online.com/redexpert/spec/7427928251?ad; Mount: Surface Mount; Min Operating Temperature: -55°C; Max Operating Temperature: 125°C; Packaging: Tape and Reel; Length: 5.6mm; Width: 5.1mm; Height: 1.8mm; Impedance @100MHz: 250Ω; Rated Current: 4A
footprint WE-CBF_2220_L5.6W5.1H1.8_HC
simulation model 2220_7427928251_250Ohm
pins: 1, 2

## 7427928551
designator FB?, comment 550Ω
WE-CBF SMT EMI Suppression Ferrite Bead, size 2220, 550Ω, 4A; Manufacturer Part Number: 7427928551; Manufacturer: Wurth Elektronik; Case/Size Code: 2220; DC Resistance Max: 0.035Ω; Impedance Max: 720Ω; Impedance Max Test Condition: 300MHz; Type: High Current; Category: Ferrites for PCB Assembly; Match Code: WE-CBF; ComponentLink1Description: Website Link; ComponentLink1URL: https://www.we-online.com/redexpert/article/7427928551?ad; ComponentLink2Description: Datasheet Link; ComponentLink2URL: https://www.we-online.com/redexpert/spec/7427928551?ad; Mount: Surface Mount; Min Operating Temperature: -55°C; Max Operating Temperature: 125°C; Packaging: Tape and Reel; Length: 5.6mm; Width: 5.1mm; Height: 2mm; Impedance @100MHz: 550Ω; Rated Current: 4A
footprint WE-CBF_2220_L5.6W5.1H2_HC
simulation model 2220_7427928551_500Ohm
pins: 1, 2

## 7427928601
designator FB?, comment 600Ω
WE-CBF SMT EMI Suppression Ferrite Bead, size 2220, 600Ω, 4A; Manufacturer Part Number: 7427928601; Manufacturer: Wurth Elektronik; Case/Size Code: 2220; DC Resistance Max: 0.025Ω; Impedance Max: 620Ω; Impedance Max Test Condition: 125MHz; Type: High Current; Category: Ferrites for PCB Assembly; Match Code: WE-CBF; ComponentLink1Description: Website Link; ComponentLink1URL: https://www.we-online.com/redexpert/article/7427928601?ad; ComponentLink2Description: Datasheet Link; ComponentLink2URL: https://www.we-online.com/redexpert/spec/7427928601?ad; Mount: Surface Mount; Min Operating Temperature: -55°C; Max Operating Temperature: 125°C; Packaging: Tape and Reel; Length: 5.6mm; Width: 5.1mm; Height: 3mm; Impedance @100MHz: 600Ω; Rated Current: 4A
footprint WE-CBF_2220_L5.6W5.1H3_HC
simulation model 2220_7427928601_600Ohm
pins: 1, 2

## 7427928801
designator FB?, comment 800Ω
WE-CBF SMT EMI Suppression Ferrite Bead, size 2220, 800Ω, 8A; Manufacturer Part Number: 7427928801; Manufacturer: Wurth Elektronik; Case/Size Code: 2220; DC Resistance Max: 0.01Ω; Impedance Max: 880Ω; Impedance Max Test Condition: 103MHz; Type: High Current; Category: Ferrites for PCB Assembly; Match Code: WE-CBF; ComponentLink1Description: Website Link; ComponentLink1URL: https://www.we-online.com/redexpert/article/7427928801?ad; ComponentLink2Description: Datasheet Link; ComponentLink2URL: https://www.we-online.com/redexpert/spec/7427928801?ad; Mount: Surface Mount; Min Operating Temperature: -55°C; Max Operating Temperature: 125°C; Packaging: Tape and Reel; Length: 5.6mm; Width: 5.1mm; Height: 3.6mm; Impedance @100MHz: 800Ω; Rated Current: 8A
footprint WE-CBF_2220_L5.6W5.1H3.6_HC
simulation model 2220_7427928801_800Ohm
pins: 1, 2